# EAGLE library part IPOD_CONNECTOR (library myradio)
male ipod edge connector from Ridax
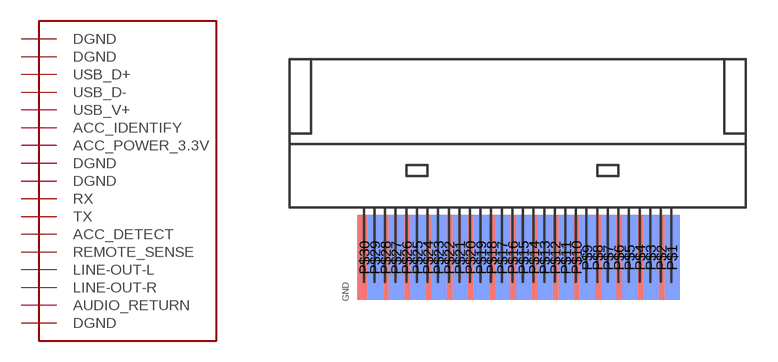
[diagram p5: symbol with the pads of IPOD_EDGE_BIGPAD; footprint IPOD_EDGE_BIGPAD]

Designator prefix CON

## IPOD_CONNECTOR  [IPOD_EDGE_BIGPAD]
P$1  DGND  pwr
P$2  DGND  pwr
P$4  USB_D+
P$6  USB_D-
P$8  USB_V+  pwr
P$10  ACC_IDENTIFY
P$13  ACC_POWER_3.3V  sup
P$15  DGND  pwr
P$16  DGND  pwr
P$18  RX
P$19  TX
P$20  ACC_DETECT
P$24  REMOTE_SENSE
P$27  LINE-OUT-L
P$28  LINE-OUT-R
P$29  AUDIO_RETURN
P$30  DGND  pwr

## Footprint IPOD_EDGE_BIGPAD (pad centres in mm)
big pads for ipod connector even pins on top, pin 2 on right odd pins on bottom, pin 1 on right
smd 0.7 x 4 bottom: P$1 7.54,0.15; P$3 6.54,0.15; P$5 5.54,0.15; P$7 4.54,0.15; P$9 3.54,0.15; P$11 2.54,0.15; P$13 1.54,0.15; P$15 0.54,0.15; P$17 -0.46,0.15; P$19 -1.46,0.15; P$21 -2.46,0.15; P$23 -3.46,0.15; P$25 -4.46,0.15; P$27 -5.46,0.15; P$29 -6.46,0.15
smd 0.7 x 4: P$2 7.04,0.15; P$4 6.04,0.15; P$6 5.04,0.15; P$8 4.04,0.15; P$10 3.04,0.15; P$12 2.04,0.15; P$14 1.04,0.15; P$16 0.04,0.15; P$18 -0.96,0.15; P$20 -1.96,0.15; P$22 -2.96,0.15; P$24 -3.96,0.15; P$26 -4.96,0.15; P$28 -5.96,0.15; P$30 -6.96,0.15